# Altium schematic symbol library Switch 3PDT.Schlib: 1 symbol
Pins are listed as number, name and electrical type; pins without a type are passive.

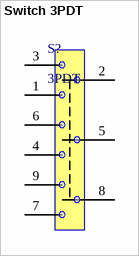
[diagram p0: symbol Switch 3PDT]

## Switch 3PDT
designator S?, comment 3PDT
Switch, 3PDT; 4 Manufacturer: NKK Switches of America Inc; 5 Manufacturer P/N: M2032SS1W03-RO; 1 Type: Switch, Toggle; ComponentLink1Description: Manufacturer Link; ComponentLink1URL: http://www.nkkswitches.com/; ComponentLink2Description: Datasheet; ComponentLink2URL: http://www.nkkswitches.com/pdf/MtogglesBushing.pdf; ComponentLink3Description: Supplier Link; ComponentLink3URL: http://search.digikey.com/scripts/DkSearch/dksus.dll?Detail?name=360-1866-ND; Cost: $1.75; 2 Description: 3PDT
pins: 1 0, 2 1, 3 2, 4 3, 5 4, 6 5, 7 6, 8 7, 9 8